# EAGLE library part JST-SM08B (library EPL)
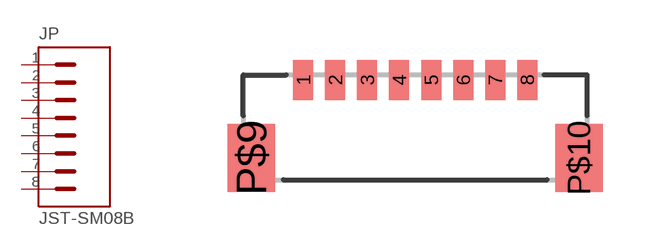
[diagram p2: symbol with the pads of JST-SM08B; footprint JST-SM08B]

Designator prefix JP

## JST-SM08B  [JST-SM08B]
1  1
2  2
3  3
4  4
5  5
6  6
7  7
8  8

## Footprint JST-SM08B (pad centres in mm)
smd 0.5 x 1: 1 -2.8,0; 2 -2,0; 3 -1.2,0; 4 -0.4,0; 5 0.4,0; 6 1.2,0; 7 2,0; 8 2.8,0
smd 1.2 x 1.7: P$9 -4.1,-1.95; P$10 4.1,-1.95